# Altium footprint library SFH6916.PcbLib: 1 footprints
Each footprint in its own frame and in the unit in brackets; x right, y up, seen from the top. Pads: shape width x height; smd on the part's side, far side on the other; paste and mask are expansions set on the pad; w line width, h text height; cw(c..) or ccw(c..) is an arc to the next point about the centre after c.
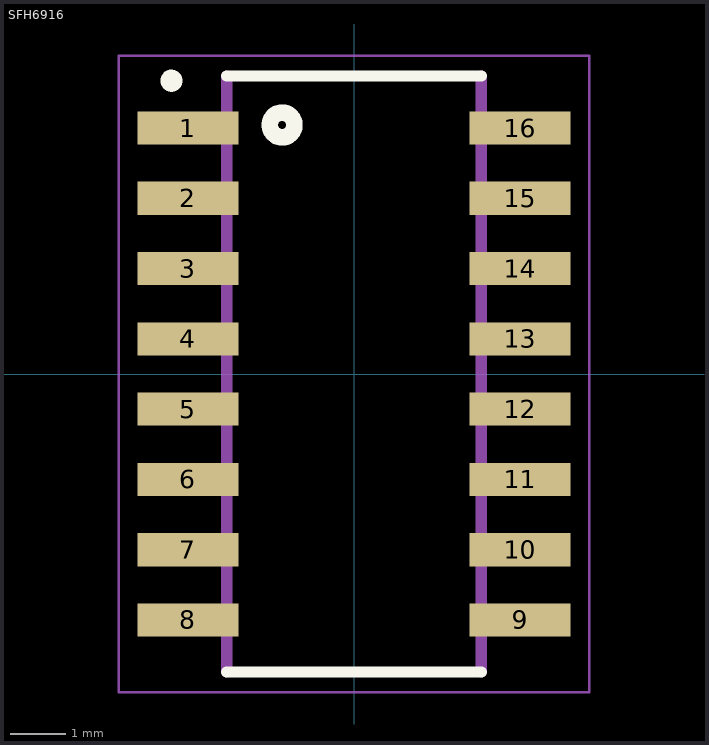
[diagram p0: the footprint, top view; thin cyan lines are the x and y axes]

## SFH6916 [mm]
pads (16):
  rect 1.82x0.6 smd: 1(-3,4.445) 2(-3,3.175) 3(-3,1.905) 4(-3,0.635) 5(-3,-0.635) 6(-3,-1.905) 7(-3,-3.175) 8(-3,-4.445) 9(3,-4.445) 10(3,-3.175) 11(3,-1.905) 12(3,-0.635) 13(3,0.635) 14(3,1.905) 15(3,3.175) 16(3,4.445)
Top Overlay:
  circle w0.3: c-1.3,4.5 r0.224
  circle w0.2: c-3.3,5.3 r0.1
  lines w0.2: -2.3,-5.385 2.3,-5.385 ; -2.3,5.385 2.3,5.385
Mechanical 13:
  lines w0.2: -2.3,-5.385 -2.3,5.385 ; 2.3,-5.385 2.3,5.385
Mechanical 15:
  lines w0.05: -4.25,-5.75 -4.25,5.75 4.25,5.75 4.25,-5.75 -4.25,-5.75
3D body "SFH6916.STEP": height 2.12, standoff -0.01, extent -3.555,-5.51 3.555,5.51